# EAGLE library part FT234XD (library Picoradio1V1)
USB TO BASIC UART IC
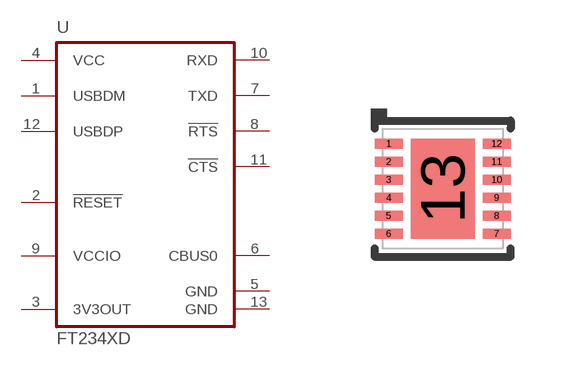
[diagram p7: symbol with the pads of DFN12; footprint DFN12]

Designator prefix U

## FT234XD  [DFN12]
1  USBDM
2  !RESET!  in
3  3V3OUT  out
4  VCC  pwr
5  GND  pwr
6  CBUS0
7  TXD  out
8  !RTS!  out
9  VCCIO  in
10  RXD  in
11  !CTS!  in
12  USBDP
13  GND  pwr

## Footprint DFN12 (pad centres in mm)
DFN-12 body 3 x 3 mm, pitch 0.45 mm
smd 0.7 x 0.25: 1 -1.35,1.125; 2 -1.35,0.675; 3 -1.35,0.225; 4 -1.35,-0.225; 5 -1.35,-0.675; 6 -1.35,-1.125; 7 1.35,-1.125; 8 1.35,-0.675; 9 1.35,-0.225; 10 1.35,0.225; 11 1.35,0.675; 12 1.35,1.125
smd 1.6 x 2.5: 13 0,0